# Altium footprint library 691 370 710 0xx B.PcbLib: 6 footprints
Each footprint in its own frame and in the unit in brackets; x right, y up, seen from the top. Pads: shape width x height; smd on the part's side, far side on the other; paste and mask are expansions set on the pad; w line width, h text height; cw(c..) or ccw(c..) is an arc to the next point about the centre after c.
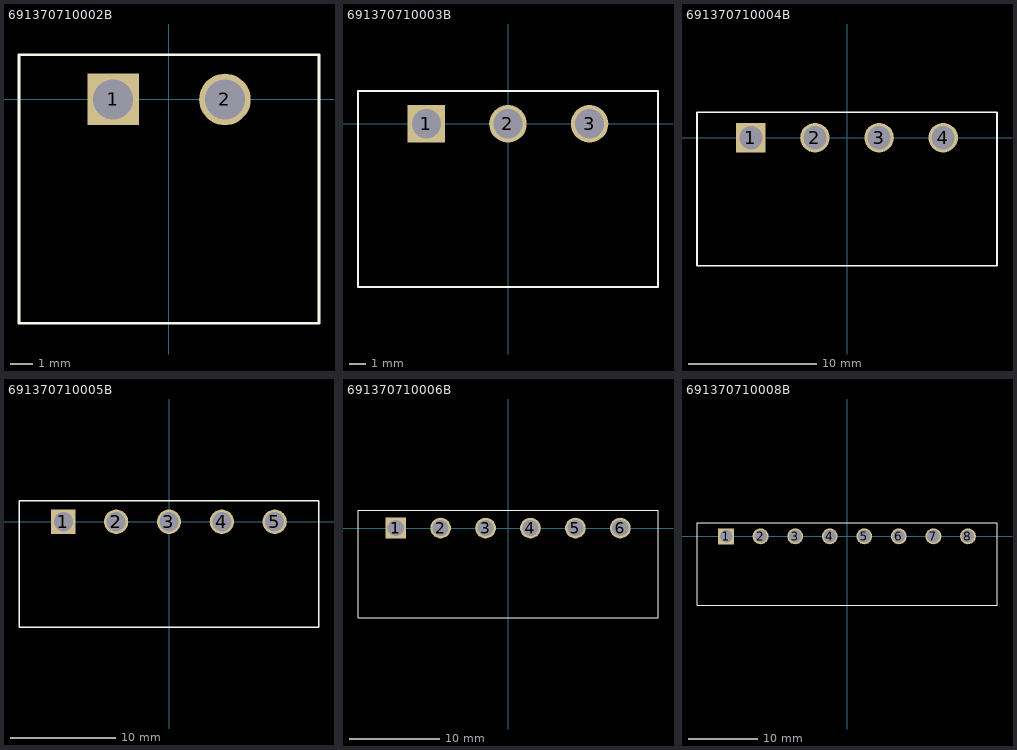
[diagram p0: the footprints below, top view; thin cyan lines are the x and y axes]

## 691370710002B [mm] "5,00mm - PCB Horizontal with strong retention force between male and female housing - grey - 02p"
height 11.5
pads (2):
  rect 2.3x2.3 hole 1.8: 1(-2.5,0)
  round 2.3 hole 1.8: 2(2.5,0)
Top Overlay:
  lines w0.127: -6.7,-10 -6.7,2 6.7,2 6.7,-10 -6.7,-10
3D body: height 11.2, standoff -2.6, extent -6.7,-10 6.7,2

## 691370710003B [mm] "5,00mm - PCB Horizontal with strong retention force between male and female housing - grey - 03p"
height 11.5
pads (3):
  rect 2.3x2.3 hole 1.8: 1(-5,0)
  round 2.3 hole 1.8: 2(0,0) 3(5,0)
Top Overlay:
  lines w0.127: -9.2,-10 -9.2,2 9.2,2 9.2,-10 -9.2,-10
3D body: height 11.2, standoff -2.6, extent -9.2,-10 9.2,2

## 691370710004B [mm] "5,00mm - PCB Horizontal with strong retention force between male and female housing - grey - 04p"
height 11.5
pads (4):
  rect 2.3x2.3 hole 1.8: 1(-7.5,0)
  round 2.3 hole 1.8: 2(-2.5,0) 3(2.5,0) 4(7.5,0)
Top Overlay:
  lines w0.127: -11.7,-10 -11.7,2 11.7,2 11.7,-10 -11.7,-10
3D body: height 11.2, standoff -2.6, extent -11.7,-10 11.7,2

## 691370710005B [mm] "5,00mm - PCB Horizontal with strong retention force between male and female housing - grey - 05p"
height 11.5
pads (5):
  rect 2.3x2.3 hole 1.8: 1(-10,0)
  round 2.3 hole 1.8: 2(-5,0) 3(0,0) 4(5,0) 5(10,0)
Top Overlay:
  lines w0.127: -14.2,-10 14.2,-10 14.2,2 -14.2,2 -14.2,-10
3D body: height 11.2, standoff -2.6, extent -14.2,-10 14.2,2

## 691370710006B [mm] "5,00mm - PCB Horizontal with strong retention force between male and female housing - grey - 06p"
height 11.5
pads (6):
  rect 2.3x2.3 hole 1.8: 1(-12.5,0)
  round 2.3 hole 1.8: 2(-7.5,0) 3(-2.5,0) 4(2.5,0) 5(7.5,0) 6(12.5,0)
Top Overlay:
  lines w0.127: -16.7,-10 16.7,-10 16.7,2 -16.7,2 -16.7,-10
3D body: height 11.53, standoff -2.58, extent -16.7,-10 16.7,2

## 691370710008B [mm] "5,00mm - PCB Horizontal with strong retention force between male and female housing - grey - 08p"
height 11.5
pads (8):
  rect 2.3x2.3 hole 1.8: 1(-17.5,0)
  round 2.3 hole 1.8: 2(-12.5,0) 3(-7.5,0) 4(-2.5,0) 5(2.5,0) 6(7.5,0) 7(12.5,0) 8(17.5,0)
Top Overlay:
  lines w0.127: -21.7,-10 -21.7,2 21.7,2 21.7,-10 -21.7,-10
3D body: height 11.2, standoff -2.6, extent -21.7,-10 21.7,2